# EAGLE library part RASPBERRY_PI_CONNECTIONS (library EDS_Eagle_Library)
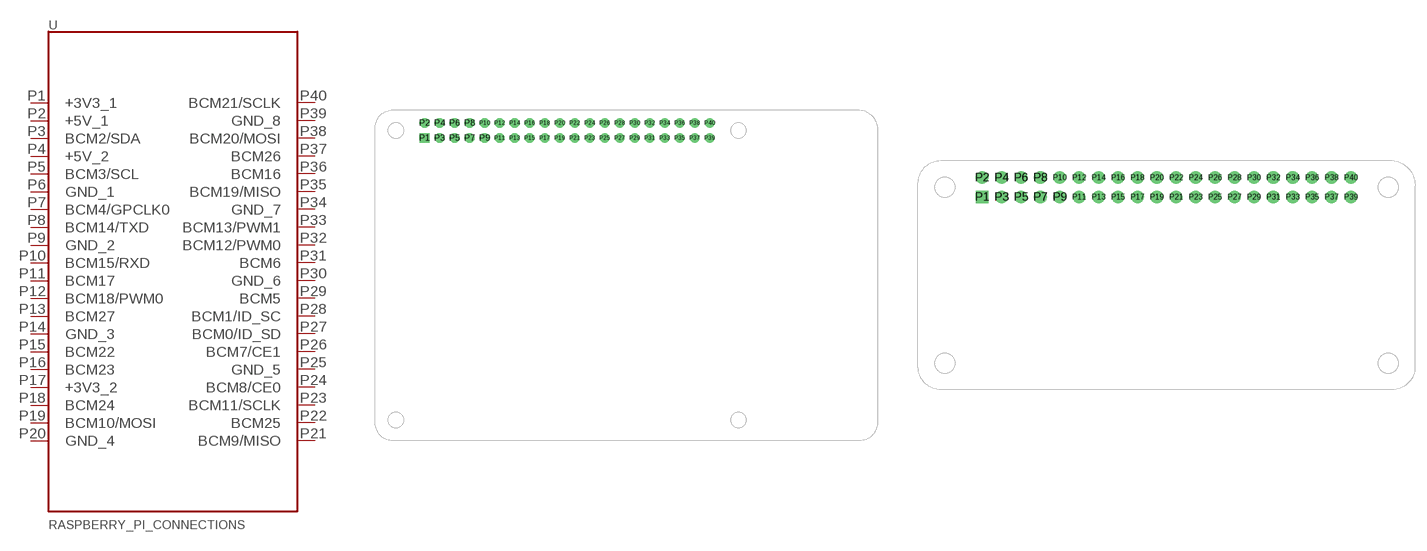
[diagram p3: symbol with the pads of RASPBERRY_PI_3B+; footprints RASPBERRY_PI_3B+, RASPBERRY_PI_ZERO]

Designator prefix -

## RASPBERRY_PI_CONNECTIONS  [RASPBERRY_PI_3B+]
P1  +3V3_1
P2  +5V_1
P3  BCM2/SDA
P4  +5V_2
P5  BCM3/SCL
P6  GND_1
P7  BCM4/GPCLK0
P8  BCM14/TXD
P9  GND_2
P10  BCM15/RXD
P11  BCM17
P12  BCM18/PWM0
P13  BCM27
P14  GND_3
P15  BCM22
P16  BCM23
P17  +3V3_2
P18  BCM24
P19  BCM10/MOSI
P20  GND_4
P21  BCM9/MISO
P22  BCM25
P23  BCM11/SCLK
P24  BCM8/CE0
P25  GND_5
P26  BCM7/CE1
P27  BCM0/ID_SD
P28  BCM1/ID_SC
P29  BCM5
P30  GND_6
P31  BCM6
P32  BCM12/PWM0
P33  BCM13/PWM1
P34  GND_7
P35  BCM19/MISO
P36  BCM16
P37  BCM26
P38  BCM20/MOSI
P39  GND_8
P40  BCM21/SCLK

## RASPBERRY_PI_CONNECTIONSRASPBERRY_PI_ZERO  [RASPBERRY_PI_ZERO]
Pads as for RASPBERRY_PI_3B+

## Footprint RASPBERRY_PI_3B+ (pad centres in mm)
drill 1.1 square: P1 -24.13,-1.27
drill 1.1: P2 -24.13,1.27; P3 -21.59,-1.27; P4 -21.59,1.27; P5 -19.05,-1.27; P6 -19.05,1.27; P7 -16.51,-1.27; P8 -16.51,1.27; P9 -13.97,-1.27; P10 -13.97,1.27; P11 -11.43,-1.27; P12 -11.43,1.27; P13 -8.89,-1.27; P14 -8.89,1.27; P15 -6.35,-1.27; P16 -6.35,1.27; P17 -3.81,-1.27; P18 -3.81,1.27; P19 -1.27,-1.27; P20 -1.27,1.27; P21 1.27,-1.27; P22 1.27,1.27; P23 3.81,-1.27; P24 3.81,1.27; P25 6.35,-1.27; P26 6.35,1.27; P27 8.89,-1.27; P28 8.89,1.27; P29 11.43,-1.27; P30 11.43,1.27; P31 13.97,-1.27; P32 13.97,1.27; P33 16.51,-1.27; P34 16.51,1.27; P35 19.05,-1.27; P36 19.05,1.27; P37 21.59,-1.27; P38 21.59,1.27; P39 24.13,-1.27; P40 24.13,1.27

## Footprint RASPBERRY_PI_ZERO (pad centres in mm)
drill 1.1 square: P1 -24.13,-1.27
drill 1.1: P2 -24.13,1.27; P3 -21.59,-1.27; P4 -21.59,1.27; P5 -19.05,-1.27; P6 -19.05,1.27; P7 -16.51,-1.27; P8 -16.51,1.27; P9 -13.97,-1.27; P10 -13.97,1.27; P11 -11.43,-1.27; P12 -11.43,1.27; P13 -8.89,-1.27; P14 -8.89,1.27; P15 -6.35,-1.27; P16 -6.35,1.27; P17 -3.81,-1.27; P18 -3.81,1.27; P19 -1.27,-1.27; P20 -1.27,1.27; P21 1.27,-1.27; P22 1.27,1.27; P23 3.81,-1.27; P24 3.81,1.27; P25 6.35,-1.27; P26 6.35,1.27; P27 8.89,-1.27; P28 8.89,1.27; P29 11.43,-1.27; P30 11.43,1.27; P31 13.97,-1.27; P32 13.97,1.27; P33 16.51,-1.27; P34 16.51,1.27; P35 19.05,-1.27; P36 19.05,1.27; P37 21.59,-1.27; P38 21.59,1.27; P39 24.13,-1.27; P40 24.13,1.27